# Altium schematic symbol library CR1206-FX-6491ELF.SchLib: 1 symbol
Pins are listed as number, name and electrical type; pins without a type are passive.

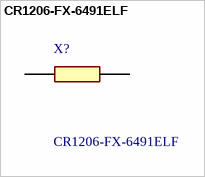
[diagram p0: symbol CR1206-FX-6491ELF]

## CR1206-FX-6491ELF
designator X?
Thick Film Resistors - SMD 6.49K 1%; Manufacturer_Name: Bourns; Geometry.Height: 0.75mm; Mouser Part Number: 652-CR1206FX-6491ELF; Mouser Price/Stock: https://www.mouser.com/Search/Refine.aspx?Keyword=652-CR1206FX-6491ELF; Manufacturer_Part_Number: CR1206-FX-6491ELF; Datasheet Link: https://componentsearchengine.com/Datasheets/1/CR1206-FX-6491ELF.pdf
footprint RESC3216X75N
pins: 1, 2